# EAGLE library part ADG918 (library analogDevices)
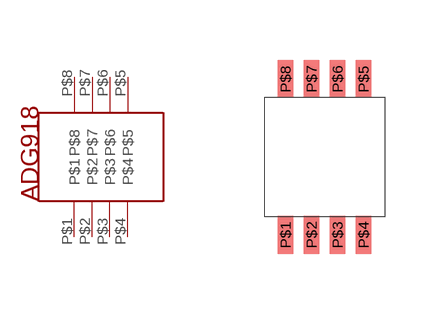
[diagram p0: symbol with the pads of ADG918; footprint ADG918]

Designator prefix -

## ADG918  [ADG918]
P$1  P$1
P$2  P$2
P$3  P$3
P$4  P$4
P$5  P$5
P$6  P$6
P$7  P$7
P$8  P$8

## Footprint ADG918 (pad centres in mm)
smd 0.38 x 0.95: P$1 -0.95,-1.95; P$2 -0.3,-1.95; P$3 0.35,-1.95; P$4 1,-1.95; P$5 1,1.95; P$6 0.35,1.95; P$7 -0.3,1.95; P$8 -0.95,1.95